# Altium integrated library REG1117.IntLib: 1 symbol
Pins are listed as number, name and electrical type; pins without a type are passive.

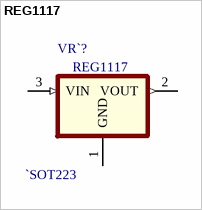
[diagram p0: symbol REG1117]

## REG1117
designator VR`?  PCB lAYOUT:: `SOT223
LDO Regulator Pos 1.25V to 13.5V 0.8A 4-Pin_3+Tab_ SOT-223 Tube; MF: Texas Instruments; Digi-Key_Part_Number: REG1117-ND; SnapEDA_Link: https://www.snapeda.com/parts/REG1117/Texas%20Instruments/view-part/?ref=snap; Package: SOT-223-4 Texas Instruments; Digi-Key_Purchase_URL: https://www.digikey.co.uk/product-detail/en/texas-instruments/REG1117/REG1117-ND/251211?utm_source=snapeda&utm_medium=aggregator&utm_campaign=symbol; MP: REG1117; Value: *; Buying URL:: https://uk.farnell.com/texas-instruments/reg1117-3-3/ic-v-reg-ldo-0-8a-3-3v-smd-1117/dp/1212355
footprint *SOT223
pins: 1 GND (power), 2 VOUT (out), 3 VIN (in)